# EAGLE library part RT6150BGQW (library LARS_409_DC-DC)
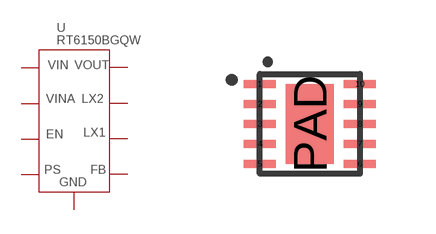
[diagram p8: symbol with the pads of WSON(10)(2.5X2.5); footprint WSON(10)(2.5X2.5)]

Designator prefix U

## RT6150BGQW  [WSON(10)(2.5X2.5)]
1  VOUT
2  LX2
3  GND
4  LX1
5  VIN
6  EN
7  PS
8  VINA
9  GND
10  FB
PAD  GND

## Footprint WSON(10)(2.5X2.5) (pad centres in mm)
smd 0.8 x 0.2: 1 -1.25,1; 2 -1.25,0.5; 3 -1.25,0; 4 -1.25,-0.5; 5 -1.25,-1; 6 1.25,-1; 7 1.25,-0.5; 8 1.25,0; 9 1.25,0.5; 10 1.25,1
smd 1.2 x 2: PAD 0,0